# EAGLE library part SR2X6A (library divers)
Rotary Switch 2*6 The dot in the symbol denotes the leftmost contact of the rotary switch (counterclockwise limit)
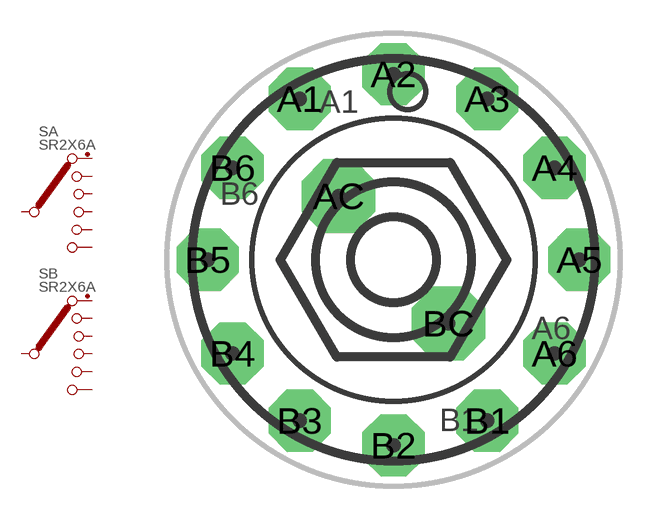
[diagram p14: symbol with the pads of SR2X6A; footprint SR2X6A]

Designator prefix S; gates A=SR1X6 B=SR1X6

## SR2X6A  [SR2X6A]
A1  A:1
A2  A:2
A3  A:3
A4  A:4
A5  A:5
A6  A:6
AC  A:C
B1  B:1
B2  B:2
B3  B:3
B4  B:4
B5  B:5
B6  B:6
BC  B:C

## Footprint SR2X6A (pad centres in mm)
Rotary Switch 2*6 (18mm) - ELMA Typ 1
drill 1.295 pad 2.794 octagon: A1 -4.207,7.223; A2 0,8.334; A3 4.207,7.223; A4 7.223,4.128; A5 8.334,0; A6 7.223,-4.207; B1 4.207,-7.223; B2 0,-8.334; B3 -4.207,-7.223; B4 -7.223,-4.207; B5 -8.334,0; B6 -7.223,4.128
drill 1.499 pad 3.302 octagon: AC -2.461,2.857; BC 2.461,-2.857